# Altium schematic symbol library QUTMS_MotorDriverLibrary.SchLib: 1 symbol
Pins are listed as number, name and electrical type; pins without a type are passive.

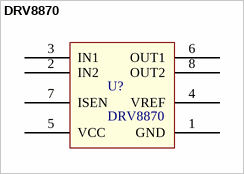
[diagram p0: symbol DRV8870]

## DRV8870
designator U?
footprint PowerPAD_Small
pins: 1 GND, 2 IN2, 3 IN1, 4 VREF, 5 VCC, 6 OUT1, 7 ISEN, 8 OUT2